# Altium schematic symbol library TV1.SchLib: 25 symbols
Pins are listed as number, name and electrical type; pins without a type are passive.

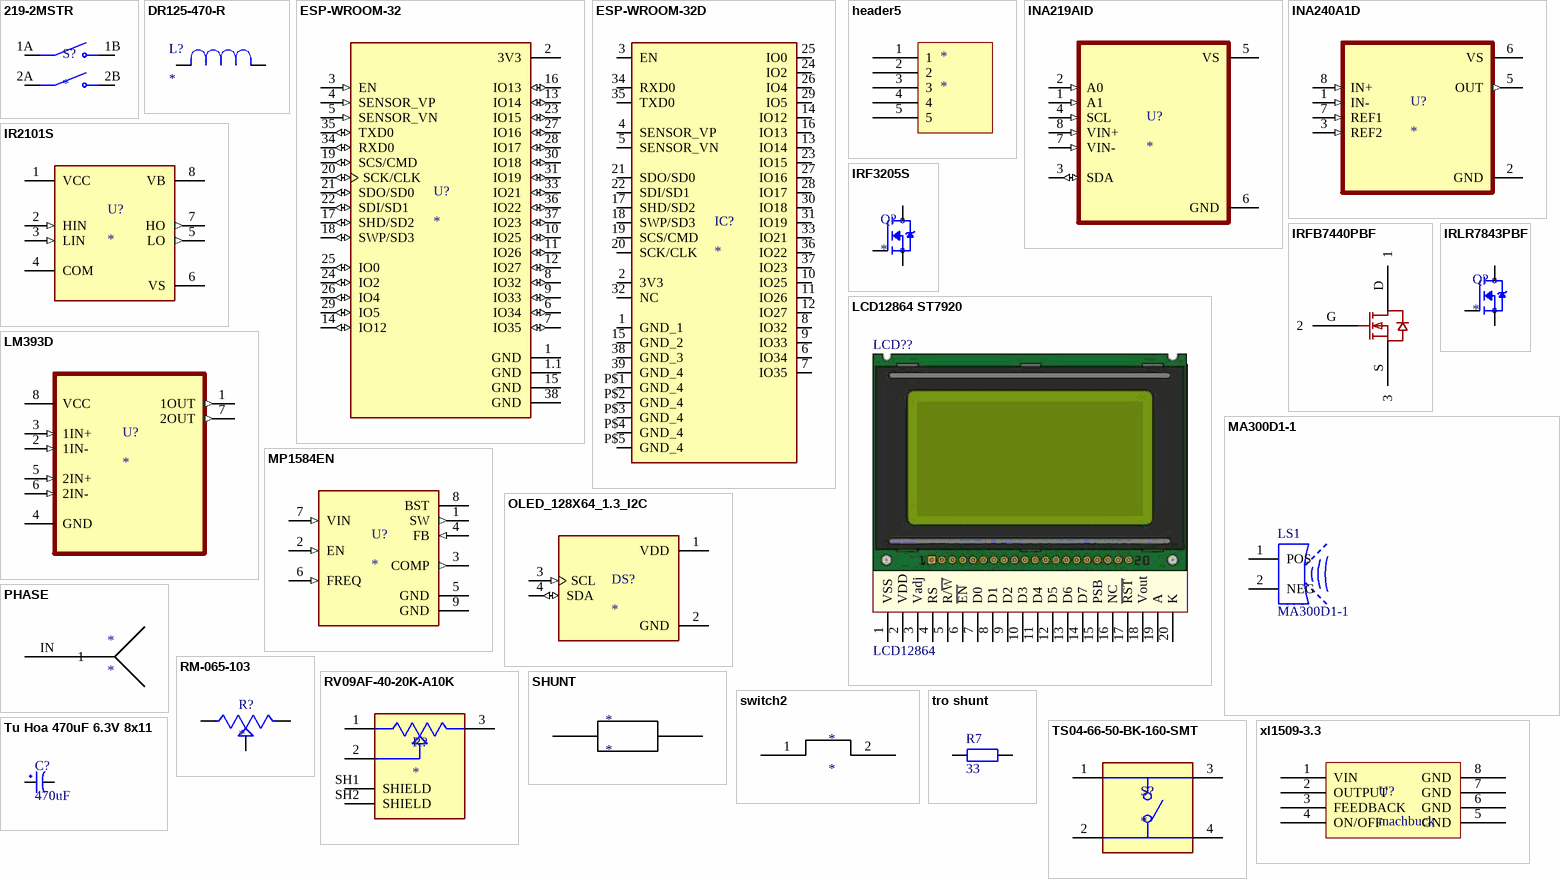
[diagram p0: symbols 219-2MSTR to xl1509-3.3]

## 219-2MSTR
designator S?
Dip Switch SPST 2 Position Surface Mount Slide (Standard) Actuator 100mA 20VDC; MF: CTS Electrocomponents; MP: 219-2MSTR; SnapEDA_Link: https://www.snapeda.com/parts/219-2MSTR/CTS+Components/view-part/?ref=snap; Package: None; Value: *; Check_prices: https://www.snapeda.com/parts/219-2MSTR/CTS+Components/view-part/?ref=eda
footprint SW_219-2MSTR
pins: 1A COM1, 1B NO1, 2A COM2, 2B NO2

## DR125-470-R
designator L?
Inductor, Wirewound, Shielded, 47uH, 74mOhm, 2.71A, Surface Mount, DR Series | Eaton Electronics DR125-470-R; SnapEDA_Link: https://www.snapeda.com/parts/DR125-470-R/Eaton/view-part/?ref=snap; Package: Non Standard Coiltronics / Eaton; Value: *; MF: Eaton; MP: DR125-470-R; Check_prices: https://www.snapeda.com/parts/DR125-470-R/Eaton/view-part/?ref=eda
footprint INDM125125X600N
pins: 1, 2

## ESP-WROOM-32
designator U?
Transceptor serie ESP-WROOM-32; Placa de evaluaciÃ³n 802.11 b/g/n (Wi-Fi, WiFi, WLAN), BluetoothÂ® Smart 4.x de bajo consumo (BLE); MF: Espressif Systems; SnapEDA_Link: https://www.snapeda.com/parts/ESP-WROOM-32/Espressif+Systems/view-part/?ref=snap; Package: Module Espressif Systems; Value: *; MP: ESP-WROOM-32; Check_prices: https://www.snapeda.com/parts/ESP-WROOM-32/Espressif+Systems/view-part/?ref=eda
footprint MODULE_ESP-WROOM-32
pins: 1 GND (power), 1.1 GND (power), 2 3V3 (power), 3 EN (in), 4 SENSOR_VP (in), 5 SENSOR_VN (in), 6 IO34 (io), 7 IO35 (io), 8 IO32 (io), 9 IO33 (io), 10 IO25 (io), 11 IO26 (io), 12 IO27 (io), 13 IO14 (io), 14 IO12 (io), 15 GND (power), 16 IO13 (io), 17 SHD/SD2 (io), 18 SWP/SD3 (io), 19 SCS/CMD (io), 20 SCK/CLK (io), 21 SDO/SD0 (io), 22 SDI/SD1 (io), 23 IO15 (io), 24 IO2 (io), 25 IO0 (io), 26 IO4 (io), 27 IO16 (io), 28 IO17 (io), 29 IO5 (io), 30 IO18 (io), 31 IO19 (io), 33 IO21 (io), 34 RXD0 (io), 35 TXD0 (io), 36 IO22 (io), 37 IO23 (io), 38 GND (power)

## ESP-WROOM-32D
designator IC?
WiFi / 802.11 Modules; MF: Espressif Systems; MP: ESP-WROOM-32D; SnapEDA_Link: https://www.snapeda.com/parts/ESP-WROOM-32D/Espressif+Systems/view-part/?ref=snap; Package: None; Value: *; Check_prices: https://www.snapeda.com/parts/ESP-WROOM-32D/Espressif+Systems/view-part/?ref=eda
footprint ESPWROOM32D
pins: 1 GND_1 (io), 2 3V3 (io), 3 EN (io), 4 SENSOR_VP (io), 5 SENSOR_VN (io), 6 IO34 (io), 7 IO35 (io), 8 IO32 (io), 9 IO33 (io), 10 IO25 (io), 11 IO26 (io), 12 IO27 (io), 13 IO14 (io), 14 IO12 (io), 15 GND_2 (io), 16 IO13 (io), 17 SHD/SD2 (io), 18 SWP/SD3 (io), 19 SCS/CMD (io), 20 SCK/CLK (io), 21 SDO/SD0 (io), 22 SDI/SD1 (io), 23 IO15 (io), 24 IO2 (io), 25 IO0 (io), 26 IO4 (io), 27 IO16 (io), 28 IO17 (io), 29 IO5 (io), 30 IO18 (io), 31 IO19 (io), 32 NC, 33 IO21 (io), 34 RXD0 (io), 35 TXD0 (io), 36 IO22 (io), 37 IO23 (io), 38 GND_3 (io), 39 GND_4 (io), P$1 GND_4 (io), P$2 GND_4 (io), P$3 GND_4 (io), P$4 GND_4 (io), P$5 GND_4 (io)

## header5
designator *
footprint header5
pins: 1, 2, 3, 4, 5

## INA219AID
designator U?
26-V 12-bit I2C output digital power monitor; MF: Texas Instruments; MP: INA219AID; SnapEDA_Link: https://www.snapeda.com/parts/INA219AID/Texas+Instruments/view-part/?ref=snap; Package: SOIC-8 Texas Instruments; Value: *; Check_prices: https://www.snapeda.com/parts/INA219AID/Texas+Instruments/view-part/?ref=eda
footprint SOIC127P599X175-8N
pins: 1 A1 (in), 2 A0 (in), 3 SDA (io), 4 SCL (in), 5 VS (power), 6 GND (power), 7 VIN- (in), 8 VIN+ (in)

## INA240A1D
designator U?
-4 to 80V, bidirectional, ultra-precise current sense amplifier with enhanced PWM rejection; MF: Texas Instruments; MP: INA240A1D; SnapEDA_Link: https://www.snapeda.com/parts/INA240A1D/Texas+Instruments/view-part/?ref=snap; Package: SOIC-8 Texas Instruments; Value: *; Check_prices: https://www.snapeda.com/parts/INA240A1D/Texas+Instruments/view-part/?ref=eda
footprint SOIC127P599X175-8N
pins: 1 IN- (in), 2 GND (power), 3 REF2 (in), 5 OUT (out), 6 VS (power), 7 REF1 (in), 8 IN+ (in)

## IR2101S
designator U?
Half-Bridge Gate Driver IC Non-Inverting 8-SOIC; MF: Infineon Technologies; MP: IR2101S; SnapEDA_Link: https://www.snapeda.com/parts/IR2101S/Infineon/view-part/?ref=snap; Package: SOIC-8 Infineon; Value: *; Check_prices: https://www.snapeda.com/parts/IR2101S/Infineon/view-part/?ref=eda
footprint SOIC127P600X175-8N
pins: 1 VCC (power), 2 HIN (in), 3 LIN (in), 4 COM (power), 5 LO (out), 6 VS (power), 7 HO (out), 8 VB (power)

## IRF3205S
designator Q?
N-Channel 55 V 110A (Tc) 200W (Tc) Surface Mount D2PAK; MP: IRF3205S; MF: Infineon Technologies; SnapEDA_Link: https://www.snapeda.com/parts/IRF3205S/Infineon+Technologies/view-part/?ref=snap; Check_prices: https://www.snapeda.com/parts/IRF3205S/Infineon+Technologies/view-part/?ref=eda; Availability: Not in stock; Package: D2PAK Infineon / IR; Price: None; Value: *
footprint TRANS_IRF3205S
pins: 1 G, 2 D, 3 S

## IRFB7440PBF
designator Q?  (value not drawn)
Manufacturer: Infineon(英飞凌); Add into BOM: yes; Number: 1 N-Channel; Drain to Source Voltage: 40V; Current - Continuous Drain(Id): 172A; RDS(on): 2.5mΩ@10V,100A; Pd - Power Dissipation: 143W; Gate Threshold Voltage (Vgs(th)): 3.9V; Gate Charge(Qg): 135nC@10V; Input Capacitance(Ciss): 4.73nF; Reverse Transfer Capacitance (Crss@Vds): 460pF; Symbol: IRFB7440PBF; Device: IRFB7440PBF; LCSC Part Name: 1个N沟道 耐压:40V 电流:172A; Supplier Part: C48044; Manufacturer Part: IRFB7440PBF; Supplier Footprint: TO-220AB; JLCPCB Part Class: Extended Part; Datasheet: https://item.szlcsc.com/datasheet/IRFB7440PBF/49050.html; Supplier: LCSC; Convert to PCB: yes; Operating Temperature: -55℃~+175℃
footprint TO-220-3_L10.0-W4.5-P2.54-L
3D model TO-220-3_L10.0-W4.5-P2.54-L
pins: 1 G, 2 D, 3 S, D 1, G 2, S 3

## IRLR7843PBF
designator Q?
RoHS Compliant | Industry-leading quality | Low RDS(ON) at 4.5V VGS | Fully Characterized Avalanche Voltage and Current | Ultra-Low Gate Impedance | Logic Level; MF: Infineon Technologies; MP: IRLR7843PBF; SnapEDA_Link: https://www.snapeda.com/parts/IRLR7843PBF/Infineon+Technologies/view-part/?ref=snap; Package: TO-252 Infineon; Value: *; Check_prices: https://www.snapeda.com/parts/IRLR7843PBF/Infineon+Technologies/view-part/?ref=eda
footprint TO229P990X239-3_4N
pins: 1 G, 3 S, 4 D

## LCD12864 ST7920
designator LCD??, comment LCD12864
LCD Graphic 128x64 ST7920; Value: LCD 128x64
footprint LCD128x64 (LCD Graphic 128x64, 20 pin)
footprint LCD128x64 (LCD Graphic 128x64, 20 pin)
pins: 1 VSS, 2 VDD, 3 Vadj, 4 RS, 5 R/~{W}, 6 ~{EN}, 7 D0, 8 D1, 9 D2, 10 D3, 11 D4, 12 D5, 13 D6, 14 D7, 15 PSB, 16 NC, 17 ~{RST}, 18 Vout, 19 A, 20 K

## LM393D
designator U?
Comparator General Purpose CMOS, DTL, ECL, MOS, Open-Collector, TTL 8-SOIC; MF: STMicroelectronics; MP: LM393D; SnapEDA_Link: https://www.snapeda.com/parts/LM393D/STMicroelectronics/view-part/?ref=snap; Package: SOIC-8 STMicroelectronics; Value: *; Check_prices: https://www.snapeda.com/parts/LM393D/STMicroelectronics/view-part/?ref=eda
footprint SOIC127P600X175-8N
pins: 1 1OUT (out), 2 1IN- (in), 3 1IN+ (in), 4 GND, 5 2IN+ (in), 6 2IN- (in), 7 2OUT (out), 8 VCC (power)

## MA300D1-1
designator LS1
Piezo Buzzers & Audio Indicators 1300pF 300kHz Ultrasonic Sensor; Package: None; Price: None; Value: *; MP: MA300D1-1; Availability: Unavailable
footprint buzzer
pins: 1 POS, 2 NEG

## MP1584EN
designator U?
Buck Switching Regulator IC Positive Adjustable 0.8V 1 Output 3A 8-SOIC (0.154, 3.90mm Width) Exposed Pad; MP: MP1584EN; MF: Monolithic Power; Value: *; SnapEDA_Link: https://www.snapeda.com/parts/MP1584EN/Monolithic+Power+Systems+Inc./view-part/?ref=snap; Purchase-URL: https://pricing.snapeda.com/search/part/MP1584EN/?ref=eda; Check_prices: https://www.snapeda.com/parts/MP1584EN/Monolithic+Power+Systems+Inc./view-part/?ref=eda; Availability: In Stock; Price: None; Package: SOIC-8 Monolithic Power
footprint SOIC127P600X170-9N
pins: 1 SW (out), 2 EN (in), 3 COMP (out), 4 FB (in), 5 GND (power), 6 FREQ (in), 7 VIN (in), 8 BST, 9 GND (power)

## OLED_128X64_1.3_I2C
designator DS?
Non-Touch Graphic LCD Display Module Transmissive White OLED, Monochrome I2C 1.3 (33.02mm) 128 x 64; MF: UNIVERSAL-SOLDER Electronics Ltd; MP: OLED 128x64 1.3&quot; I2C; SnapEDA_Link: https://www.snapeda.com/parts/OLED%20128x64%201.3%22%20I2C/UNIVERSAL-SOLDER+Electronics+Ltd/view-part/?ref=snap; Package: None; Value: *; Check_prices: https://www.snapeda.com/parts/OLED%20128x64%201.3%22%20I2C/UNIVERSAL-SOLDER+Electronics+Ltd/view-part/?ref=eda
footprint LCD_OLED_128X64_1.3_I2C
pins: 1 VDD (power), 2 GND (power), 3 SCL (in), 4 SDA (io)

## PHASE
designator *
footprint PCBComponent_1 - duplicate
pins: IN 1

## RM-065-103
designator R?
MF: Runtron; MP: RM-065-103; SnapEDA_Link: https://www.snapeda.com/parts/RM-065-103/Runtron/view-part/?ref=snap; Package: None; Value: *; Check_prices: https://www.snapeda.com/parts/RM-065-103/Runtron/view-part/?ref=eda
footprint TRIM_RM-065-103
pins: 1, 2, 3

## RV09AF-40-20K-A10K
designator R?
PC Mount Black Shaft Potentiometers Audio 9mm 10K; MF: Alpha Taiwan; MP: RV09AF-40-20K-A10K; SnapEDA_Link: https://www.snapeda.com/parts/RV09AF-40-20K-A10K/Alpha/view-part/?ref=snap; Package: None; Value: *; Check_prices: https://www.snapeda.com/parts/RV09AF-40-20K-A10K/Alpha/view-part/?ref=eda
footprint TRIM_RV09AF-40-20K-A10K
pins: 1, 2, 3, SH1 SHIELD, SH2 SHIELD

## SHUNT
designator *
footprint SHUNT
pins: 1, 2

## switch2
designator *
footprint switch
pins: 1, 2

## tro shunt
designator R7, comment 33
cam; Chung_Loai: Dán; Don_Vi: Con; So_Chan: 2; Ten_Linh_Kien: Trở 0805 1% 0.22R; Ma_Hang: MH005466; Kieu_Chan: *
footprint PCBComponent_1
pins: 1, 2

## TS04-66-50-BK-160-SMT
designator S?
6 x 6 mm, 5 mm Actuator Height, 160 gf, Black, Surface Mount, SPST, Tactile Switch; MF: Same Sky; MP: TS04-66-50-BK-160-SMT; SnapEDA_Link: https://www.snapeda.com/parts/TS04-66-50-BK-160-SMT/Same+Sky/view-part/?ref=snap; Package: None; Value: *; Check_prices: https://www.snapeda.com/parts/TS04-66-50-BK-160-SMT/Same+Sky/view-part/?ref=eda
footprint SW_TS04-66-50-BK-160-SMT
footprint SW_TS04-66-50-BK-160-SMT
pins: 1, 2, 3, 4

## Tu Hoa 470uF 6.3V 8x11
designator C?, comment 470uF
Cắm; Don_Vi: Con; So_Chan: 2; Ten_Linh_Kien: Tụ Hóa 470uF 6.3V 8x11MM; Ma_Hang: MH004511; Chung_Loai: Cắm; Kieu_Chan: *
footprint TU HOA 10mm
pins: 1, 2

## xl1509-3.3
designator U?, comment machbuck
footprint BUCK-3.3
pins: 1 VIN, 2 OUTPUT, 3 FEEDBACK, 4 ON/OFF, 5 GND, 6 GND, 7 GND, 8 GND